# Altium footprint library FQD7P06TM.PcbLib: 1 footprints
Each footprint in its own frame and in the unit in brackets; x right, y up, seen from the top. Pads: shape width x height; smd on the part's side, far side on the other; paste and mask are expansions set on the pad; w line width, h text height; cw(c..) or ccw(c..) is an arc to the next point about the centre after c.
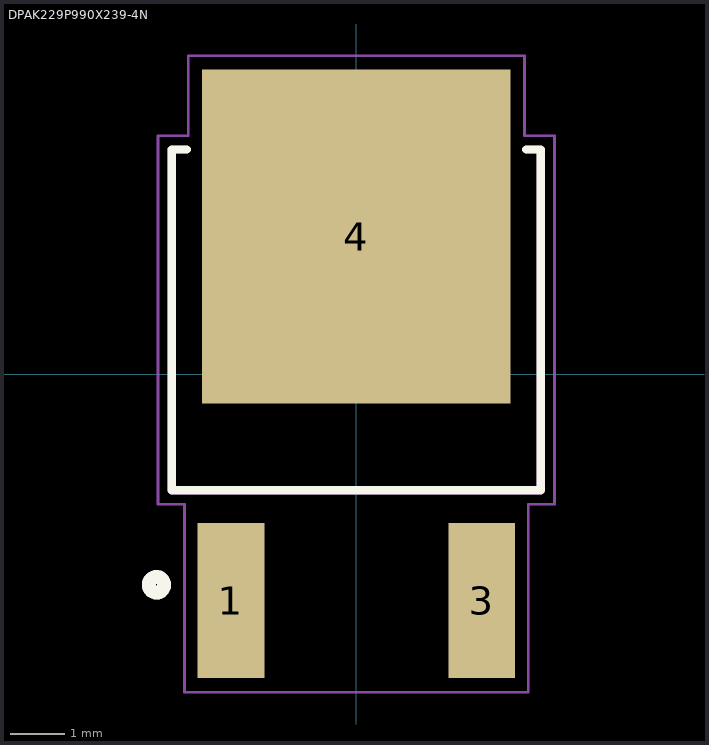
[diagram p0: the footprint, top view; thin cyan lines are the x and y axes]

## DPAK229P990X239-4N [mm]
pads (3):
  rect 1.22x2.83 smd: 1(-2.29,-4.14) 3(2.29,-4.14)
  rect 5.63x6.1 smd: 4(0,2.51)
Top Overlay:
  circle w0.254: c-3.65,-3.85 r0.141
  lines w0.152: -3.1,4.098 -3.37,4.098 -3.37,-2.123 3.37,-2.123 3.37,4.098 3.1,4.098
Top Paste:
  region: -2.533,3.812 -2.533,5.279 -1.234,5.279 -1.234,3.812
  region: -2.535,1.78 -2.535,3.243 -1.228,3.243 -1.228,1.78
  region: -2.538,-0.253 -2.538,1.213 -1.228,1.213 -1.228,-0.253
  region: 1.226,-0.249 1.226,1.209 2.536,1.209 2.536,-0.249
  region: 1.226,1.781 1.226,3.24 2.535,3.24 2.535,1.781
  region: 1.229,3.814 1.229,5.272 2.533,5.272 2.533,3.814
  region: -0.656,-0.251 -0.656,1.21 0.655,1.21 0.655,-0.251
  region: -0.65,3.815 -0.65,5.277 0.648,5.277 0.648,3.815
  region: -0.652,3.813 -0.652,5.274 0.651,5.274 0.651,3.813
  region: -0.653,1.782 -0.653,3.244 0.651,3.244 0.651,1.782
Mechanical 1:
  circle w0.254: c-3.65,-3.85 r0.141
  lines w0.05: -3.62,-2.38 -3.62,4.35 -3.07,4.35 -3.07,5.81 3.07,5.81 3.07,4.35 3.62,4.35 3.62,-2.38 3.14,-2.38 3.14,-5.81 -3.14,-5.81 -3.14,-2.38 -3.62,-2.38
  lines w0.152: -3.1,4.098 -3.37,4.098 -3.37,-2.123 3.37,-2.123 3.37,4.098 3.1,4.098
3D body: height 3, standoff 0, extent -3.378,-1.206 3.378,5.017
3D body: height 2, standoff 0, extent -3.378,-3.81 3.378,2.337